# Altium footprint library FootPrintLib_4.PcbLib: 700 footprints (part 43 of 44)
Each footprint in its own frame and in the unit in brackets; x right, y up, seen from the top. Pads: shape width x height; smd on the part's side, far side on the other; paste and mask are expansions set on the pad; w line width, h text height; cw(c..) or ccw(c..) is an arc to the next point about the centre after c.
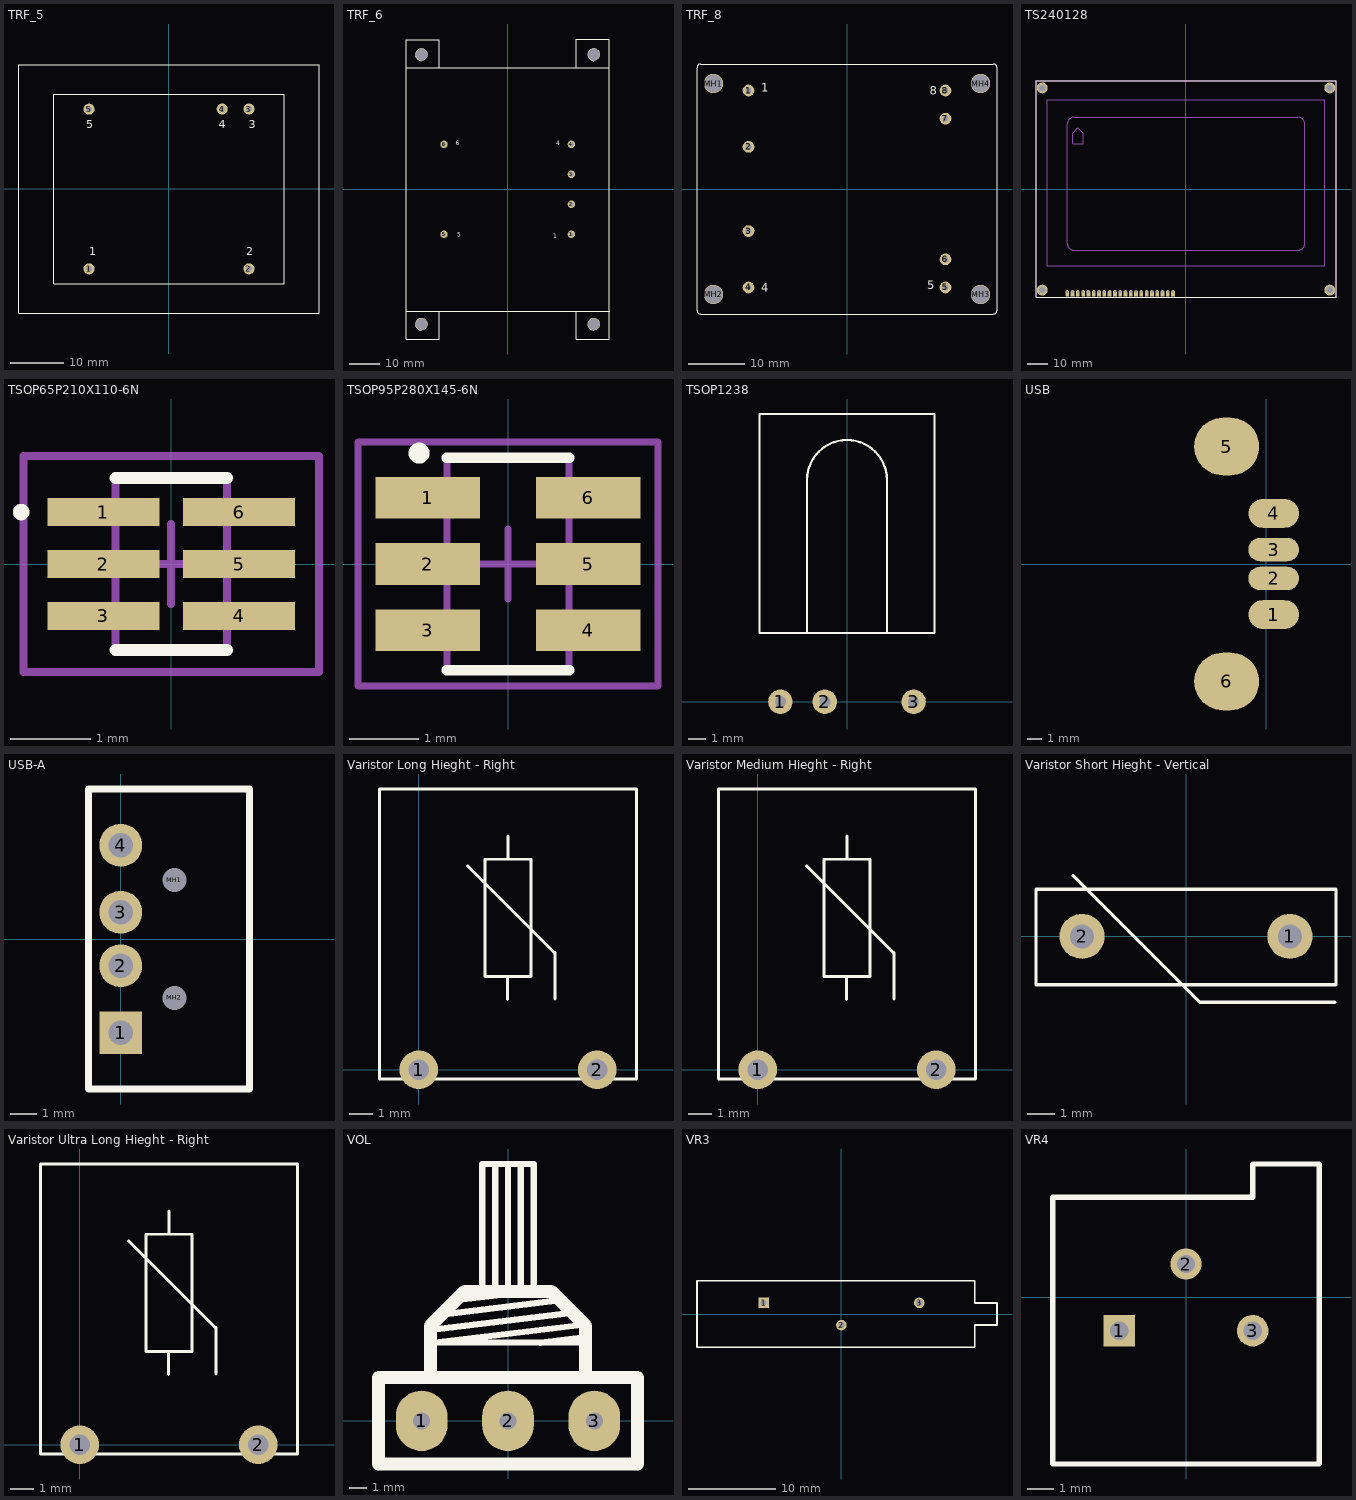
[diagram p42: the footprints below, top view; thin cyan lines are the x and y axes]

## TRF_5 [mil] "Transformer; 5 Leads"
pads (5):
  round 82 hole 42: 1(-590.83,-590.42) 2(590.83,-590.42) 3(590.83,590.42) 4(393.33,590.42) 5(-590.83,589.58)
Top Overlay:
  lines w8: -1108.33,-917.08 -1108.33,916.25 1108.33,916.25 1108.33,-917.08 -1108.33,-917.08 ; -850,-700.42 850,-700.42 850,699.58 -850,699.58 -850,-700.42
  text "5" at -610.83,449.58 h59.06
  text "1" at -590.83,-490.42 h59.06
  text "4" at 369.17,449.58 h59.06
  text "3" at 589.17,449.58 h59.06
  text "2" at 569.17,-490.42 h59.06

## TRF_6 [mil] "Transformer; 6 Leads"
pads (10):
  round 98 hole 52: 1(836.67,-590.83) 2(836.67,-196.67) 3(836.67,196.67) 4(836.67,590.83) 5(-836.67,-590.83) 6(-836.67,590.83)
  round 165 hole 152: MH1(-1131.67,-1771.67) MH2(1131.67,-1771.67) MH3(1131.67,1771.67) MH4(-1131.67,1771.67)
Top Overlay:
  lines w8: -1333.33,-1600 1341.67,-1600 ; -1333.33,1600 1333.33,1600 ; -1133.33,-1850 cw(c-1133.33,-1775) -1133.33,-1700 ; -1133.33,1691.67 cw(c-1133.33,1766.67) -1133.33,1841.67 ; -900,-1600 -900,-1966.67 -1333.33,-1966.67 -1333.33,1966.67 -900,1966.67 -900,1600 ; 900,-1600 900,-1966.67 1333.33,-1966.67 1333.33,1966.67 ; 900,1600 900,1975 1333.33,1975 ; 1133.33,-1850 cw(c1133.33,-1775) 1133.33,-1700 ; 1133.33,1691.67 cw(c1133.33,1766.67) 1133.33,1841.67
  text "5" at -660,-620 h59.06
  text "1" at 600,-640 h59.06
  text "4" at 640,580 h59.06
  text "6" at -680,580 h59.06

## TRF_8 [mil] "Transformer; 8 Leads"
pads (12):
  round 82 hole 42: 1(-689.17,689.17) 2(-689.17,295) 3(-689.17,-295) 4(-689.17,-689.17) 5(689.17,-689.17) 6(689.17,-492.5) 7(689.17,492.5) 8(689.17,689.17)
  round 135 hole 125: MH1(-935,738.33) MH2(-935,-738.33) MH3(935,-738.33) MH4(935,738.33)
Top Overlay:
  lines w8: -1050,-850 ccw(c-1025,-850) -1025,-875 1025,-875 ccw(c1025,-850) 1050,-850 1050,850 ccw(c1025,850) 1025,875 -1025,875 ccw(c-1025,850) -1050,850 -1050,-850
  text "4" at -600,-720 h59.06
  text "8" at 580,660 h59.06
  text "5" at 560,-700 h59.06
  text "1" at -600,680 h59.06

## TS240128 [mm] "Graphical LCD Module TS240128 With T6963 Controller, Dimention 144x104x12 mm"
height 12
pads (78):
  round 1.8 hole 1 mask+0.1: 1(-57,-49.46) 2(-54.46,-49.46) 3(-51.92,-49.46) 4(-49.38,-49.46) 5(-46.84,-49.46) 6(-44.3,-49.46) 7(-41.76,-49.46) 8(-39.22,-49.46) 9(-36.68,-49.46) 10(-34.14,-49.46) 11(-31.6,-49.46) 12(-29.06,-49.46) 13(-26.52,-49.46) 14(-23.98,-49.46) 15(-21.44,-49.46) 16(-18.9,-49.46) 17(-16.36,-49.46) 18(-13.82,-49.46) 19(-11.28,-49.46) 20(-8.74,-49.46) 21(-6.2,-49.46)
  rect 1.8x2 all layers, no hole: 1(-57,-50.546) 2(-54.46,-50.546) 3(-51.92,-50.546) 4(-49.38,-50.546) 5(-46.84,-50.546) 6(-44.3,-50.546) 7(-41.76,-50.546) 8(-39.22,-50.546) 9(-36.68,-50.546) 10(-34.14,-50.546) 11(-31.6,-50.546) 12(-29.06,-50.546) 13(-26.52,-50.546) 14(-23.98,-50.546) 15(-21.44,-50.546) 16(-18.9,-50.546) 17(-16.36,-50.546) 18(-13.82,-50.546) 19(-11.28,-50.546) 20(-8.74,-50.546) 21(-6.2,-50.546)
  round 0 hole 0.5: MH1(-71,-48.5) MH1(-70.414,-49.914) MH1(-70.414,-47.086) MH1(-69,-50.5) MH1(-69,-46.5) MH1(-67.586,-49.914) MH1(-67.586,-47.086) MH1(-67,-48.5) MH2(-71,48.5) MH2(-70.414,47.086) MH2(-70.414,49.914) MH2(-69,46.5) MH2(-69,50.5) MH2(-67.586,47.086) MH2(-67.586,49.914) MH2(-67,48.5) MH3(67,48.5) MH3(67.586,47.086) MH3(67.586,49.914) MH3(69,46.5) MH3(69,50.5) MH3(70.414,47.086) MH3(70.414,49.914) MH3(71,48.5) MH4(67,-48.5) MH4(67.586,-49.914) MH4(67.586,-47.086) MH4(69,-50.5) MH4(69,-46.5) MH4(70.414,-49.914) MH4(70.414,-47.086) MH4(71,-48.5)
  round 5.2 hole 3: MH1(-69,-48.5) MH2(-69,48.5) MH3(69,48.5) MH4(69,-48.5)
Top Overlay:
  lines w0.3: -72,-52 -72,52 72,52 72,-52 -72,-52
Mechanical 1:
  lines w0.3: 43,-29.5 53.586,-29.5 ccw(c53.586,-26.086) 57,-26.086 57,31.086 ccw(c53.586,31.086) 53.586,34.5 -53.586,34.5 ccw(c-53.586,31.086) -57,31.086 -57,-26.086 ccw(c-53.586,-26.086) -53.586,-29.5 50,-29.5 ; -51.92,29.28 -49.38,26.74 ; -51.92,29.28 -49.38,26.74 ; -51.92,29.28 -49.38,26.74 ; -51.92,29.28 -54.46,26.74 -54.46,21.66 -49.38,21.66 -49.38,26.74 ; -72,-52 72,-52 72,52 -72,52 -72,-52 ; -66.6,-36.9 66.6,-36.9 66.6,42.9 -66.6,42.9 -66.6,-36.9
  text "R" at -52.428,23.692 h2
3D body "14801.STEP": height 13.69, standoff -3.71, extent -71.295,46.218 -66.705,50.8
3D body "14801.STEP": height 13.69, standoff -3.71, extent 66.705,46.218 71.295,50.8
3D body "14801.STEP": height 13.69, standoff -3.71, extent 66.705,-50.782 71.295,-46.2
3D body "14801.STEP": height 13.69, standoff -3.71, extent -71.295,-50.782 -66.705,-46.2
3D body "User Library-TS240128D.step": height 21.38, standoff 9.05, extent -72,-52 72,52
3D body "Female Header 21.STEP": height 8.55, standoff -2.34, extent -58.2,-50.66 -5,-48.26
3D body "header21-10mm.STEP": height 13.74, standoff 2.82, extent -58.259,-50.73 -4.919,-48.19
3D body: height 20.5, standoff 20.45, extent -57,-29.5 57,34.925

## TSOP65P210X110-6N [mm] "TSOP, 6-Leads, Body 2.2x1.4mm (max), Pitch 0.65mm, IPC Medium Density"
height 1.1
pads (6):
  rect 1.4x0.35 smd: 1(-0.85,0.65) 2(-0.85,0) 3(-0.85,-0.65) 4(0.85,-0.65) 5(0.85,0) 6(0.85,0.65)
Top Overlay:
  circle w0.15: c-1.878,0.65 r0.028
  lines w0.15: -0.7,-1.075 0.7,-1.075 ; -0.7,1.075 0.7,1.075
Mechanical 13:
  lines w0.1: -0.7,-1.075 -0.7,1.075 0.7,1.075 0.7,-1.075 -0.7,-1.075
Mechanical 15:
  lines w0.1: -0.5,0 0.5,0 ; 0,-0.5 0,0.5 ; -1.85,-1.35 -1.85,1.35 1.85,1.35 1.85,-1.35 -1.85,-1.35
3D body: height 1.1, standoff 0

## TSOP95P280X145-6N [mm] "TSOP, 6-Leads, Body 3.0x1.8mm (max), Pitch 0.95mm, IPC Medium Density"
height 1.45
pads (6):
  rect 1.5x0.6 smd: 1(-1.15,0.95) 2(-1.15,0) 3(-1.15,-0.95) 4(1.15,-0.95) 5(1.15,0) 6(1.15,0.95)
Top Overlay:
  circle w0.2: c-1.275,1.589 r0.05
  lines w0.15: -0.875,-1.525 0.875,-1.525 ; -0.875,1.525 0.875,1.525
Mechanical 13:
  lines w0.1: -0.875,-1.525 0.875,-1.525 0.875,1.525 -0.875,1.525 -0.875,-1.525
Mechanical 15:
  lines w0.1: -0.5,0 0.5,0 ; 0,-0.5 0,0.5 ; -2.15,-1.75 2.15,-1.75 2.15,1.75 -2.15,1.75 -2.15,-1.75
3D body "User Library-SOT23-6.step": height 1.3, standoff 0, extent -1.5,-1.5 1.5,1.5

## TSOP1238 [mil] "IR Sensor (TV Sensor)"
pads (3):
  round 55 hole 25: 1(-150,0) 2(-50,0) 3(150,0)
Top Overlay:
  lines w5: -90,155 -90,500 cw(c0,500) 90,500 90,155 ; -196.85,155 196.85,155 196.85,648.48 -196.85,648.48 -196.85,155
3D body "TSOP1238_2009.STEP": height 228.35, standoff -84.65, extent -196.85,-9 196.85,648.48

## USB [mil]
pads (6):
  oval 140x80 smd: 1(20,-140) 4(20,140)
  oval 140x65 smd: 2(20,-40) 3(20,40)
  oval 180x160 smd: 5(-110,325) 6(-110,-325)
Bottom Overlay:
  circle w9.84: c45.08,-200 r4.92
  lines w7.87: -522.4,-258.46 -522.4,-285.43 -535,-285.43 -535,-258.46 ; -522.4,258.46 -522.4,285.43 -535,285.43 -535,258.46 ; -201.14,-258.46 -535,-258.46 ; -201.14,258.46 -535,258.46 ; -20.04,-258.46 16.18,-258.46 16.18,-185.04 ; -20.04,258.46 16.18,258.46 16.18,180.71 ; 15,90 16.18,82.28 ; 16.18,-90.55 16.18,-82.28 ; -535,-258.46 -535,258.46

## USB-A [mm]
pads (6):
  rect 1.6x1.6 hole 0.92: 1(0,-3.5)
  round 1.6 hole 0.92: 2(0,-1) 3(0,1) 4(0,3.5)
  round 0.6 hole 0.9: MH1(2,2.2) MH2(2,-2.2)
Top Overlay:
  lines w0.254: -1.2,-5.6 -1.2,5.6 4.8,5.6 4.8,-5.6 -1.2,-5.6

## Varistor Long Hieght - Right [mil] "JVR10N331k With Long Hieght Legs and Right Angle"
pads (2):
  round 65 hole 35: 1(0,0) 2(300,0)
Top Overlay:
  lines w5: 82,343 228,197 229,197 229,119 ; 149,118 149,157 ; 150,354 150,393 ; -66.54,-16 366.54,-16 366.54,472.19 -66.54,472.19 -66.54,-16 ; 111,157 189,157 189,354 111,354 111,157
3D body "JVR10N331k_long_2009.STEP": height 349.69, standoff -98.43, extent -66.54,-16 366.54,472.19

## Varistor Medium Hieght - Right [mil] "JVR10N331k With Medium Hieght Legs and Right Angle"
pads (2):
  round 65 hole 35: 1(0,0) 2(300,0)
Top Overlay:
  lines w5: 82,343 228,197 229,197 229,119 ; 149,118 149,157 ; 150,354 150,393 ; -66.54,-16 -66.54,472.19 366.54,472.19 366.54,-16 -66.54,-16 ; 111,157 111,354 189,354 189,157 111,157
3D body "JVR10N331k_medium_2009.STEP": height 270.7, standoff -98.43, extent -66.54,-16 366.54,472.19

## Varistor Short Hieght - Vertical [mil]
pads (2):
  round 65 hole 35: 1(150,0) 2(-150,0)
Top Overlay:
  lines w5: -162.5,87.5 20,-95 215,-95 ; -216.47,-69.99 216.43,-69.99 216.43,68.36 -216.47,68.36 -216.47,-69.99
3D body "JVR10N331k_vertical.STEP": height 472.44, standoff -98.43, extent -216.47,-69.99 216.43,68.36

## Varistor Ultra Long Hieght - Right [mil] "JVR10N331k With Medium Hieght Legs and Right Angle"
pads (2):
  round 65 hole 35: 1(0,0) 2(300,0)
Top Overlay:
  lines w5: 82,343 228,197 229,197 229,119 ; 149,118 149,157 ; 150,354 150,393 ; -66.54,-16 -66.54,472.19 366.54,472.19 366.54,-16 -66.54,-16 ; 111,157 111,354 189,354 189,157 111,157
3D body "JVR10N331k_untra long_2009.STEP": height 664.15, standoff -98.43, extent -66.54,-16 366.54,472.19

## VOL [mil]
pads (3):
  oval 120x140 hole 39.37: 1(-200,0) 2(0,0) 3(200,0)
Top Overlay:
  lines w15: -185,210 149.98,250.2 ; -180,180 179.62,223.15 ; -167.47,181.5 178.5,181.5 ; -165,245 118.79,279.06 ; -115,280 84.53,303.94 ; -60,300 -60,595 60,595 60,309.56 67.64,301.92 ; -30,300 -30,595 ; 0,310 0,595 ; 30,310 30,595 ; 75.01,181.4 179.53,193.94
  lines w30: -180,100 -180,220 -100,300 100,300 180,220 180,100 ; -300,-100 300,-100 300,100 -300,100 -300,-100

## VR3 [mm] "Thru-Hole; 3 Leads"
pads (3):
  rect 1.2x1.2 hole 0.7: 1(-8.89,1.27)
  round 1.2 hole 0.7: 2(0,-1.27) 3(8.89,1.27)
Top Overlay:
  lines w0.2: -16.51,-3.81 -16.51,3.81 15.24,3.81 15.24,1.27 17.78,1.27 17.78,-1.27 15.24,-1.27 15.24,-3.81 -16.51,-3.81

## VR4 [mm] "Thru-Hole; 3 Leads"
pads (3):
  rect 1.2x1.2 hole 0.7: 1(-2.54,-1.27)
  round 1.2 hole 0.7: 2(0,1.27) 3(2.54,-1.27)
Top Overlay:
  lines w0.2: -5.08,-6.35 5.08,-6.35 5.08,5.08 2.54,5.08 2.54,3.81 -5.08,3.81 -5.08,-6.35